# EAGLE library part BLUETOOTHDIP (library bluetoothDIP)
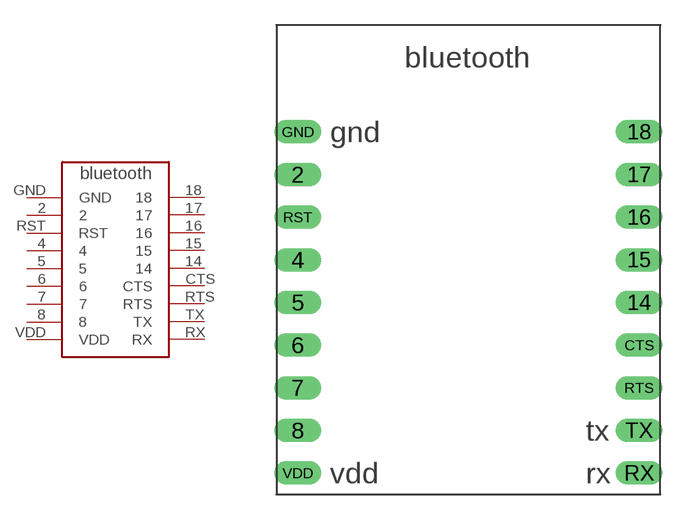
[diagram p0: symbol with the pads of BLUETOOTHDIP; footprint BLUETOOTHDIP]

Designator prefix -

## BLUETOOTHDIP  [BLUETOOTHDIP]
2  2
4  4
5  5
6  6
7  7
8  8
14  14
15  15
16  16
17  17
18  18
CTS  CTS
GND  GND
RST  RST
RTS  RTS
RX  RX
TX  TX
VDD  VDD

## Footprint BLUETOOTHDIP (pad centres in mm)
drill 0.9 long: 2 -10.16,11.43; 4 -10.16,6.35; 5 -10.16,3.81; 6 -10.16,1.27; 7 -10.16,-1.27; 8 -10.16,-3.81; 14 10.16,3.81; 15 10.16,6.35; 16 10.16,8.89; 17 10.16,11.43; 18 10.16,13.97; CTS 10.16,1.27; GND -10.16,13.97; RST -10.16,8.89; RTS 10.16,-1.27; RX 10.16,-6.35; TX 10.16,-3.81; VDD -10.16,-6.35